# EAGLE library part LM3S9B92 (library mrone)
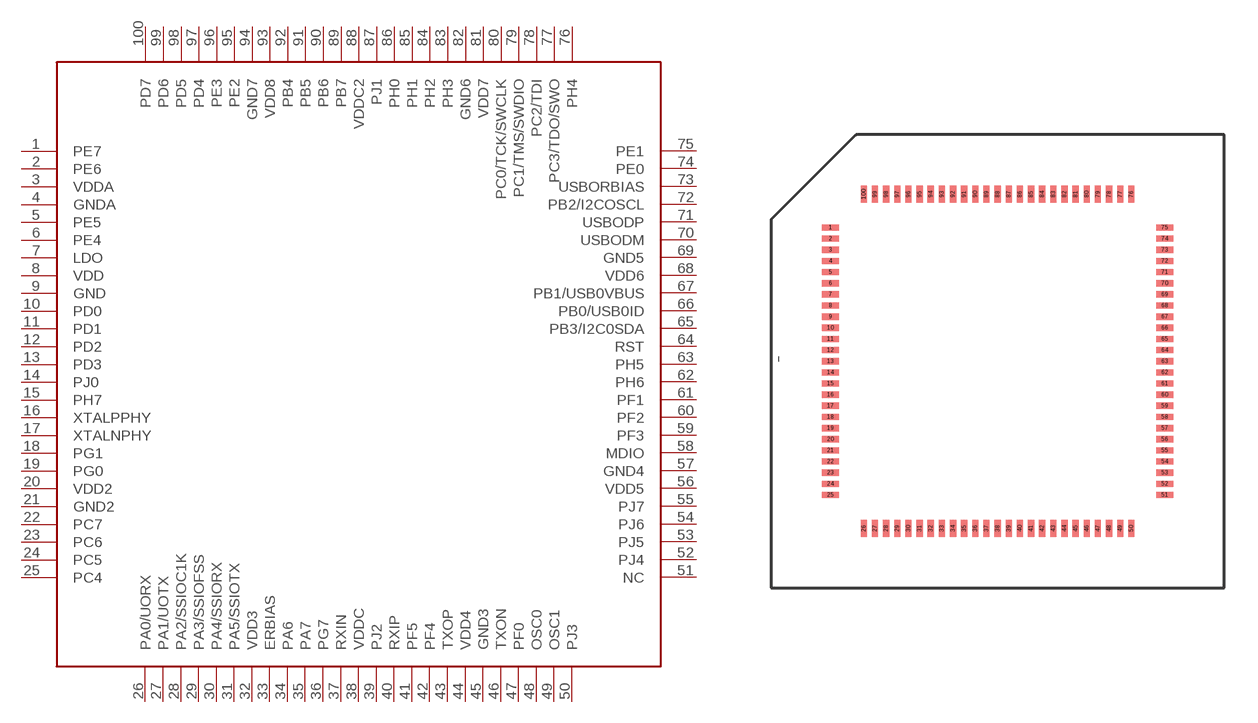
[diagram p7: symbol with the pads of LM3S9B92; footprint LM3S9B92]

Designator prefix -

## LM3S9B92  [LM3S9B92]
1  PE7
2  PE6
3  VDDA
4  GNDA
5  PE5
6  PE4
7  LDO
8  VDD
9  GND
10  PD0
11  PD1
12  PD2
13  PD3
14  PJ0
15  PH7
16  XTALPPHY
17  XTALNPHY
18  PG1
19  PG0
20  VDD2
21  GND2
22  PC7
23  PC6
24  PC5
25  PC4
26  PA0/UORX
27  PA1/UOTX
28  PA2/SSIOC1K
29  PA3/SSIOFSS
30  PA4/SSIORX
31  PA5/SSIOTX
32  VDD3
33  ERBIAS
34  PA6
35  PA7
36  PG7
37  RXIN
38  VDDC
39  PJ2
40  RXIP
41  PF5
42  PF4
43  TXOP
44  VDD4
45  GND3
46  TXON
47  PF0
48  OSC0
49  OSC1
50  PJ3
51  NC
52  PJ4
53  PJ5
54  PJ6
55  PJ7
56  VDD5
57  GND4
58  MDIO
59  PF3
60  PF2
61  PF1
62  PH6
63  PH5
64  RST
65  PB3/I2C0SDA
66  PB0/USB0ID
67  PB1/USB0VBUS
68  VDD6
69  GND5
70  USBODM
71  USBODP
72  PB2/I2COSCL
73  USBORBIAS
74  PE0
75  PE1
76  PH4
77  PC3/TDO/SWO
78  PC2/TDI
79  PC1/TMS/SWDIO
80  PC0/TCK/SWCLK
81  VDD7
82  GND6
83  PH3
84  PH2
85  PH1
86  PH0
87  PJ1
88  VDDC2
89  PB7
90  PB6
91  PB5
92  PB4
93  VDD8
94  GND7
95  PE2
96  PE3
97  PD4
98  PD5
99  PD6
100  PD7

## Footprint LM3S9B92 (pad centres in mm)
smd 0.76 x 0.28: 1 -7.5,6; 2 -7.5,5.5; 3 -7.5,5; 4 -7.5,4.5; 5 -7.5,4; 6 -7.5,3.5; 7 -7.5,3; 8 -7.5,2.5; 9 -7.5,2; 10 -7.5,1.5; 11 -7.5,1; 12 -7.5,0.5; 13 -7.5,0; 14 -7.5,-0.5; 15 -7.5,-1; 16 -7.5,-1.5; 17 -7.5,-2; 18 -7.5,-2.5; 19 -7.5,-3; 20 -7.5,-3.5; 21 -7.5,-4; 22 -7.5,-4.5; 23 -7.5,-5; 24 -7.5,-5.5; 25 -7.5,-6; 51 7.5,-6; 52 7.5,-5.5; 53 7.5,-5; 54 7.5,-4.5; 55 7.5,-4; 56 7.5,-3.5; 57 7.5,-3; 58 7.5,-2.5; 59 7.5,-2; 60 7.5,-1.5; 61 7.5,-1; 62 7.5,-0.5; 63 7.5,0; 64 7.5,0.5; 65 7.5,1; 66 7.5,1.5; 67 7.5,2; 68 7.5,2.5; 69 7.5,3; 70 7.5,3.5; 71 7.5,4; 72 7.5,4.5; 73 7.5,5; 74 7.5,5.5; 75 7.5,6
smd 0.28 x 0.76: 26 -6,-7.5; 27 -5.5,-7.5; 28 -5,-7.5; 29 -4.5,-7.5; 30 -4,-7.5; 31 -3.5,-7.5; 32 -3,-7.5; 33 -2.5,-7.5; 34 -2,-7.5; 35 -1.5,-7.5; 36 -1,-7.5; 37 -0.5,-7.5; 38 0,-7.5; 39 0.5,-7.5; 40 1,-7.5; 41 1.5,-7.5; 42 2,-7.5; 43 2.5,-7.5; 44 3,-7.5; 45 3.5,-7.5; 46 4,-7.5; 47 4.5,-7.5; 48 5,-7.5; 49 5.5,-7.5; 50 6,-7.5; 76 6,7.5; 77 5.5,7.5; 78 5,7.5; 79 4.5,7.5; 80 4,7.5; 81 3.5,7.5; 82 3,7.5; 83 2.5,7.5; 84 2,7.5; 85 1.5,7.5; 86 1,7.5; 87 0.5,7.5; 88 0,7.5; 89 -0.5,7.5; 90 -1,7.5; 91 -1.5,7.5; 92 -2,7.5; 93 -2.5,7.5; 94 -3,7.5; 95 -3.5,7.5; 96 -4,7.5; 97 -4.5,7.5; 98 -5,7.5; 99 -5.5,7.5; 100 -6,7.5